# EAGLE library part 82C52 (library micro-harris)
MICROCONTROLLER/MEMORY DEVICE
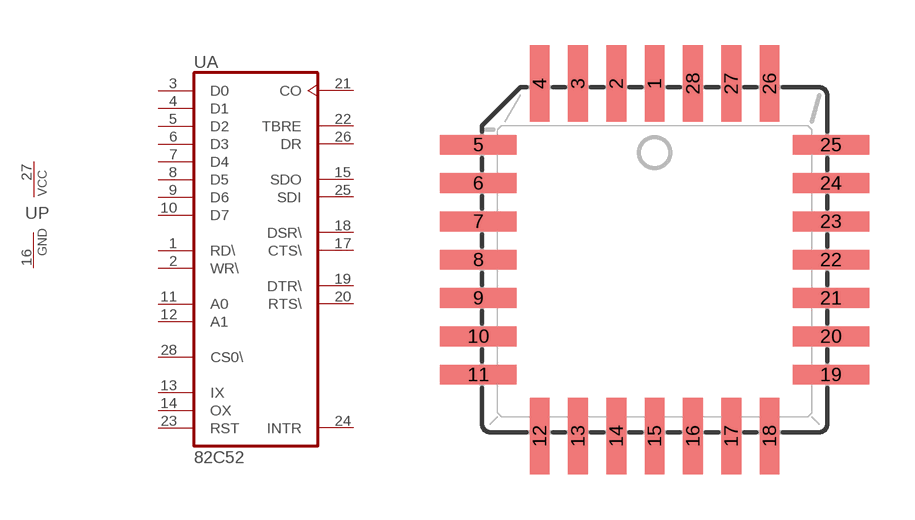
[diagram p21: symbol with the pads of PLCC28; footprint PLCC28]

Designator prefix U; gates A=82C52 P=PWRN

## 82C52  [PLCC28]
1  A:RD\  in
2  A:WR\  in
3  A:D0
4  A:D1
5  A:D2
6  A:D3
7  A:D4
8  A:D5
9  A:D6
10  A:D7
11  A:A0  in
12  A:A1  in
13  A:IX
14  A:OX
15  A:SDO  out
16  P:GND  pwr
17  A:CTS\  in
18  A:DSR\  in
19  A:DTR\  out
20  A:RTS\  out
21  A:CO  out
22  A:TBRE  out
23  A:RST  in
24  A:INTR  out
25  A:SDI  in
26  A:DR  out
27  P:VCC  pwr
28  A:CS0\  in

## Footprint PLCC28 (pad centres in mm)
PLASTIC LEADED CHIP CARRIER square
smd 0.66 x 2.54: 1 0,5.842; 2 -1.27,5.842; 3 -2.54,5.842; 4 -3.81,5.842; 12 -3.81,-5.842; 13 -2.54,-5.842; 14 -1.27,-5.842; 15 0,-5.842; 16 1.27,-5.842; 17 2.54,-5.842; 18 3.81,-5.842; 26 3.81,5.842; 27 2.54,5.842; 28 1.27,5.842
smd 2.54 x 0.66: 5 -5.842,3.81; 6 -5.842,2.54; 7 -5.842,1.27; 8 -5.842,0; 9 -5.842,-1.27; 10 -5.842,-2.54; 11 -5.842,-3.81; 19 5.842,-3.81; 20 5.842,-2.54; 21 5.842,-1.27; 22 5.842,0; 23 5.842,1.27; 24 5.842,2.54; 25 5.842,3.81